# Altium footprint library rcl@1.PCBLIB: 487 footprints (part 3 of 31)
Each footprint in its own frame and in the unit in brackets; x right, y up, seen from the top. Pads: shape width x height; smd on the part's side, far side on the other; paste and mask are expansions set on the pad; w line width, h text height; cw(c..) or ccw(c..) is an arc to the next point about the centre after c.
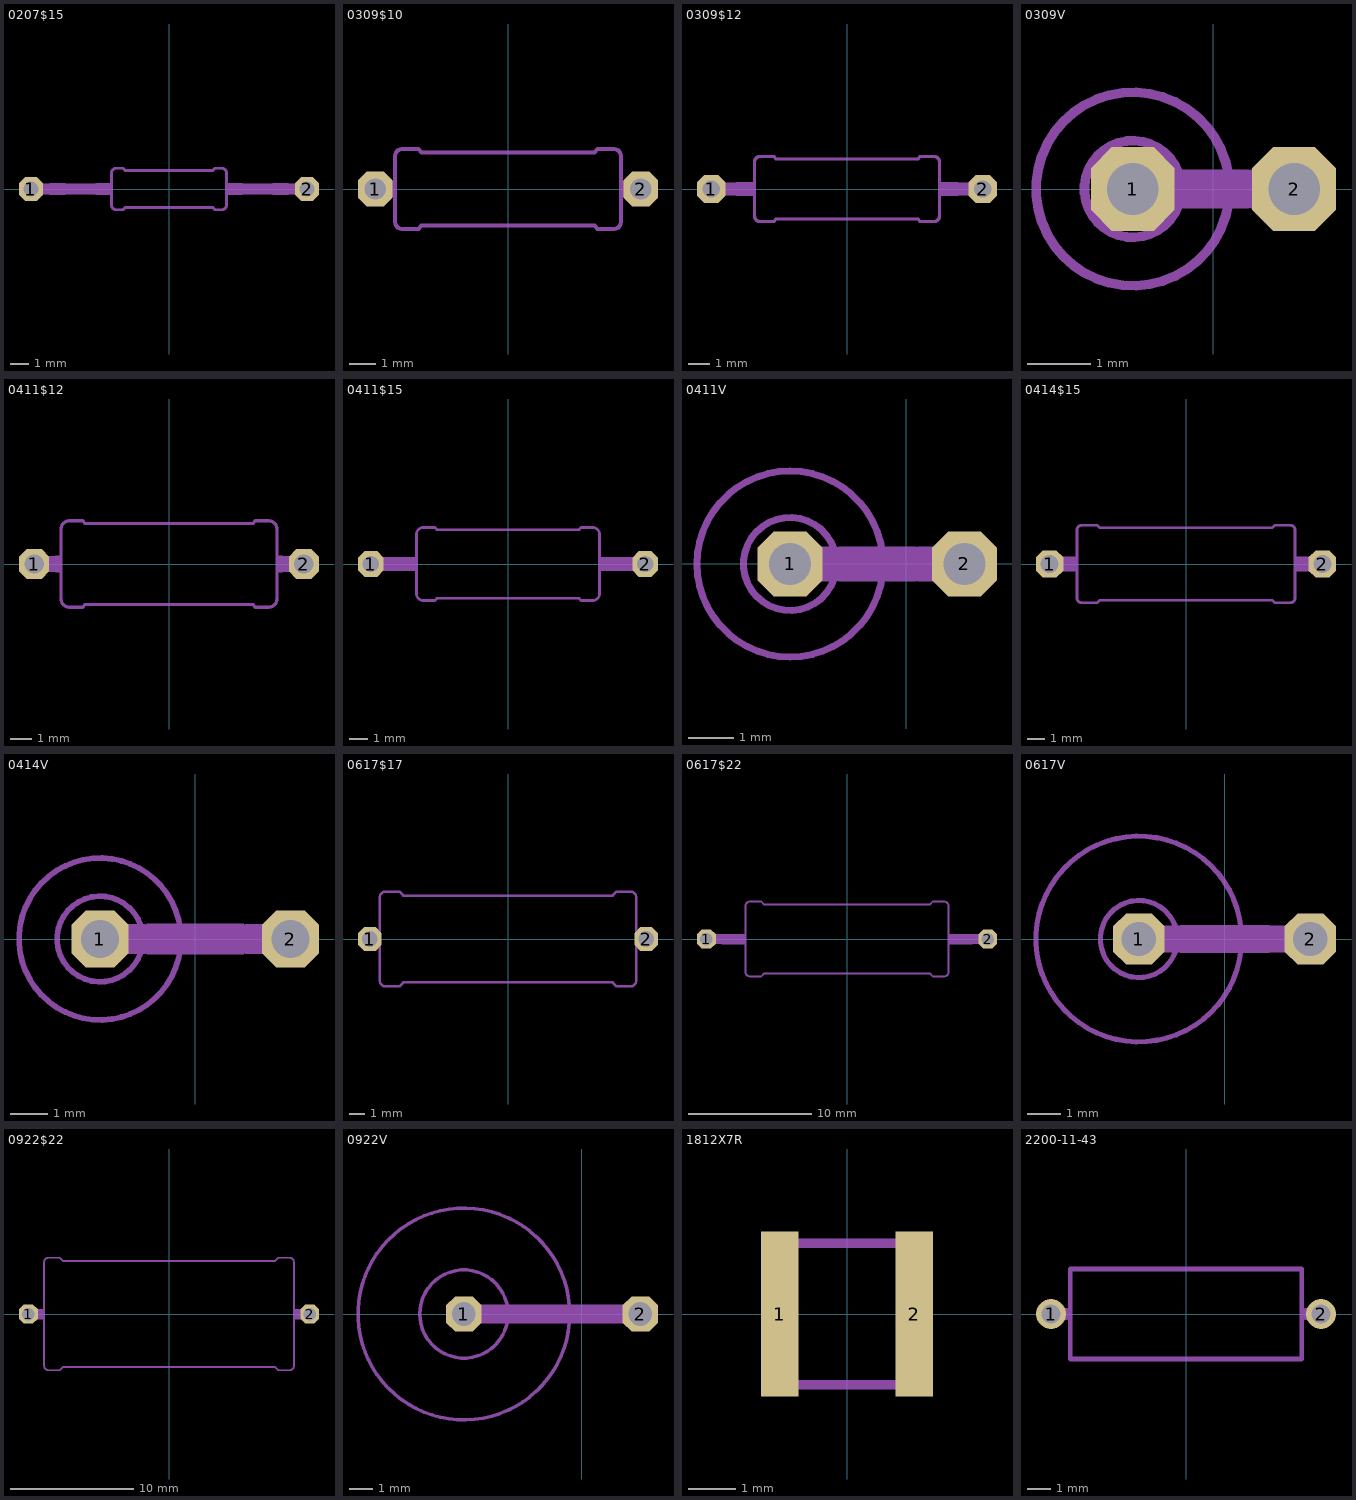
[diagram p2: the footprints below, top view; thin cyan lines are the x and y axes]

## 0207$15 [mil]
pads (2):
  oct 52x52 / inner round 48.04 / far side oct 52x52 hole 32: 1(-300,0) 2(300,0)
tDocu:
  lines w24: -300,0 -260,0 ; 260,0 300,0
tPlace:
  region: 125,-12 125,12 159,12 159,-12
  region: -159,-12 -159,12 -125,12 -125,-12
  region: 225,-12 225,12 259,12 259,-12
  region: -259,-12 -259,12 -225,12 -225,-12
  lines w6: -125,-35 ccw(c-115,-35) -115,-45 -100,-45 -95,-40 95,-40 100,-45 115,-45 ccw(c115,-35) 125,-35 125,35 ccw(c115,35) 115,45 100,45 95,40 -95,40 -100,45 -115,45 ccw(c-115,35) -125,35 -125,-35
  lines w24: -225,0 -160,0 ; 160,0 225,0

## 0309$10 [mil]
pads (2):
  oct 52x52 / inner round 48.04 / far side oct 52x52 hole 32: 1(-200,0) 2(200,0)
tDocu:
  region: -182,-12 -182,12 -170,12 -170,-12
  region: 170,-12 170,12 182,12 182,-12
  lines w6: -170,-50 -170,50 ; 170,-50 170,50
  lines w24: -200,0 -185,0 ; 185,0 200,0
tPlace:
  lines w6: -170,-50 ccw(c-160,-50) -160,-60 -135,-60 -130,-55 130,-55 135,-60 160,-60 ccw(c160,-50) 170,-50 ; -170,50 cw(c-160,50) -160,60 -135,60 -130,55 130,55 135,60 160,60 cw(c160,50) 170,50

## 0309$12 [mil]
pads (2):
  oct 52x52 / inner round 48.04 / far side oct 52x52 hole 32: 1(-250,0) 2(250,0)
tDocu:
  lines w24: -250,0 -200,0 ; 200,0 250,0
tPlace:
  region: 170,-12 170,12 204,12 204,-12
  region: -204,-12 -204,12 -170,12 -170,-12
  lines w6: -170,-50 ccw(c-160,-50) -160,-60 -135,-60 -130,-55 130,-55 135,-60 160,-60 ccw(c160,-50) 170,-50 170,50 ccw(c160,50) 160,60 135,60 130,55 -130,55 -135,60 -160,60 ccw(c-160,50) -170,50 -170,-50

## 0309V [mil]
pads (2):
  oct 52x52 / inner round 48.04 / far side oct 52x52 hole 32: 1(-50,0) 2(50,0)
tDocu:
  circle w6: c-50,0 r30
  region: 10,-12 10,12 22,12 22,-12
  region: -25,-12 -25,12 -13,12 -13,-12
  lines w24: -50,0 -25,0 ; 25,0 50,0
tPlace:
  circle w6: c-50,0 r60
  region: -13,-12 -13,12 10,12 10,-12

## 0411$12 [mil]
pads (2):
  oct 56x56 / inner round 51.74 / far side oct 56x56 hole 36: 1(-250,0) 2(250,0)
tDocu:
  lines w30: -250,0 -215,0 ; 215,0 250,0
tPlace:
  region: -211,-15 -211,15 -200,15 -200,-15
  region: 200,-15 200,15 211,15 211,-15
  lines w6: -200,-65 ccw(c-185,-65) -185,-80 -160,-80 -155,-75 155,-75 160,-80 185,-80 ccw(c185,-65) 200,-65 200,65 ccw(c185,65) 185,80 160,80 155,75 -155,75 -160,80 -185,80 ccw(c-185,65) -200,65 -200,-65

## 0411$15 [mil]
pads (2):
  oct 56x56 / inner round 51.74 / far side oct 56x56 hole 36: 1(-300,0) 2(300,0)
tDocu:
  lines w30: -300,0 -250,0 ; 250,0 300,0
tPlace:
  region: 200,-15 200,15 255,15 255,-15
  region: -255,-15 -255,15 -200,15 -200,-15
  lines w6: -200,-65 ccw(c-185,-65) -185,-80 -160,-80 -155,-75 155,-75 160,-80 185,-80 ccw(c185,-65) 200,-65 200,65 ccw(c185,65) 185,80 160,80 155,75 -155,75 -160,80 -185,80 ccw(c-185,65) -200,65 -200,-65

## 0411V [mil]
pads (2):
  oct 56x56 / inner round 51.74 / far side oct 56x56 hole 36: 1(-100,0) 2(50,0)
tDocu:
  circle w6: c-100,0 r40
  lines w30: -100,0 -62,0 ; 12,0 50,0
tPlace:
  circle w6: c-100,0 r80
  region: -58,-15 -58,15 8,15 8,-15

## 0414$15 [mil]
pads (2):
  oct 60x60 / inner round 55.43 / far side oct 60x60 hole 40: 1(-300,0) 2(300,0)
tDocu:
  lines w32: -300,0 -260,0 ; 260,0 300,0
tPlace:
  region: 240,-16 240,16 256,16 256,-16
  region: -256,-16 -256,16 -240,16 -240,-16
  lines w6: -240,-75 ccw(c-230,-75) -230,-85 -195,-85 -190,-80 190,-80 195,-85 230,-85 ccw(c230,-75) 240,-75 240,75 ccw(c230,75) 230,85 195,85 190,80 -190,80 -195,85 -230,85 ccw(c-230,75) -240,75 -240,-75

## 0414V [mil]
pads (2):
  oct 60x60 / inner round 55.43 / far side oct 60x60 hole 40: 1(-100,0) 2(100,0)
tDocu:
  circle w6: c-100,0 r45
  lines w32: -100,0 -55,0 ; 55,0 100,0
tPlace:
  circle w6: c-100,0 r85
  region: -51,-16 -51,16 51,16 51,-16

## 0617$17 [mil]
pads (2):
  oct 60x60 / inner round 55.43 / far side oct 60x60 hole 40: 1(-350,0) 2(350,0)
tDocu:
  region: -336,-16 -336,16 -324,16 -324,-16
  region: 324,-16 324,16 336,16 336,-16
  lines w6: -325,-40 -325,40 ; 325,-40 325,40
  lines w32: -350,0 -340,0 ; 340,0 350,0
tPlace:
  lines w6: -325,-40 -325,-105 ccw(c-310,-105) -310,-120 -275,-120 -265,-110 265,-110 275,-120 310,-120 ccw(c310,-105) 325,-105 325,-40 ; -325,40 -325,105 cw(c-310,105) -310,120 -275,120 -265,110 265,110 275,120 310,120 cw(c310,105) 325,105 325,40

## 0617$22 [mil]
pads (2):
  oct 60x60 / inner round 55.43 / far side oct 60x60 hole 40: 1(-450,0) 2(450,0)
tDocu:
  lines w32: -450,0 -405,0 ; 405,0 450,0
tPlace:
  region: -401,-16 -401,16 -325,16 -325,-16
  region: 325,-16 325,16 401,16 401,-16
  lines w6: -325,-105 -325,105 cw(c-310,105) -310,120 -275,120 -265,110 265,110 275,120 310,120 cw(c310,105) 325,105 325,-105 cw(c310,-105) 310,-120 275,-120 265,-110 -265,-110 -275,-120 -310,-120 cw(c-310,-105) -325,-105

## 0617V [mil]
pads (2):
  oct 60x60 / inner round 55.43 / far side oct 60x60 hole 40: 1(-100,0) 2(100,0)
tDocu:
  circle w6: c-100,0 r45
  lines w32: -100,0 -50,0 ; 50,0 100,0
tPlace:
  circle w6: c-100,0 r120
  region: -52,-16 -52,16 52,16 52,-16

## 0922$22 [mil]
pads (2):
  oct 60x60 / inner round 55.43 / far side oct 60x60 hole 40: 1(-450,0) 2(450,0)
tDocu:
  region: -422,-16 -422,16 -400,16 -400,-16
  region: 400,-16 400,16 422,16 422,-16
  lines w32: -450,0 -425,0 ; 425,0 450,0
tPlace:
  region: 400,-16 400,16 406,16 406,-16
  region: -406,-16 -406,16 -400,16 -400,-16
  lines w6: -400,-165 -400,165 cw(c-385,165) -385,180 -350,180 -340,170 340,170 350,180 385,180 cw(c385,165) 400,165 400,-165 cw(c385,-165) 385,-180 350,-180 340,-170 -340,-170 -350,-180 -385,-180 cw(c-385,-165) -400,-165

## 0922V [mil]
pads (2):
  oct 60x60 / inner round 55.43 / far side oct 60x60 hole 40: 1(-200,0) 2(100,0)
tDocu:
  lines w32: -200,0 -150,0 ; 55,0 100,0
tPlace:
  circle w6: c-200,0 r180
  circle w6: c-200,0 r75
  region: -150,-16 -150,16 52,16 52,-16
  text "0922" at -270,100 h62

## 1812X7R [mil]
pads (2):
  rect 31.5x137.8 smd: 1(-56.1,0) 2(56.1,0)
tDocu:
  region: -55.12,-62.99 -55.12,62.99 -43.31,62.99 -43.31,-62.99
  region: 55.12,62.99 55.12,-62.99 43.31,-62.99 43.31,62.99
  lines w8: -43.31,-59.06 43.31,-59.06 ; -43.31,59.06 43.31,59.06
tPlace:
  lines w8: -23.62,-59.06 23.62,-59.06 ; -23.62,59.06 23.62,59.06

## 2200-11-43 [mil]
pads (2):
  round 50 hole 31.5: 1(-225,0) 2(225,0)
tDocu:
  lines w8: -192.91,-74.8 192.91,-74.8 192.91,74.8 -192.91,74.8 -192.91,-74.8
  lines w19.69: -225,0 -200,0 ; 200,0 225,0